# EAGLE library part HEAD2MM-6 (library dubec)
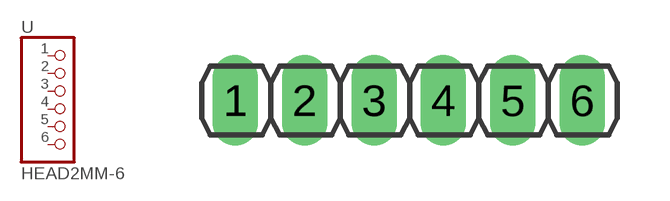
[diagram p5: symbol with the pads of PINHEAD2MM-6; footprint PINHEAD2MM-6]

Designator prefix -

## HEAD2MM-6  [PINHEAD2MM-6]
1  1  pas
2  2  pas
3  3  pas
4  4  pas
5  5  pas
6  6  pas

## Footprint PINHEAD2MM-6 (pad centres in mm)
drill 0.8 long: 1 -6.02,0; 2 -4.02,0; 3 -2.02,0; 4 -0.02,0; 5 1.98,0; 6 3.98,0